# Altium footprint library PcbLib1.PcbLib: 2 footprints
Each footprint in its own frame and in the unit in brackets; x right, y up, seen from the top. Pads: shape width x height; smd on the part's side, far side on the other; paste and mask are expansions set on the pad; w line width, h text height; cw(c..) or ccw(c..) is an arc to the next point about the centre after c.
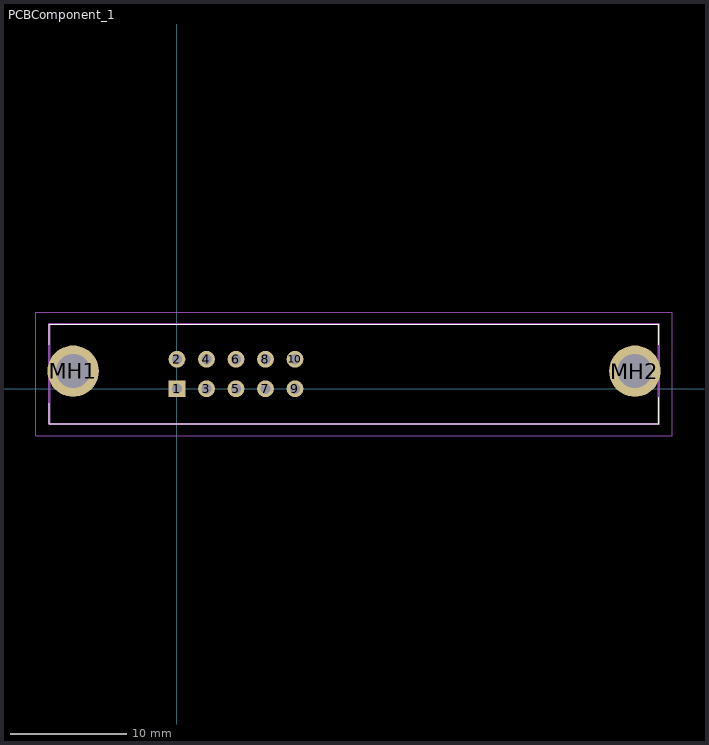
[diagram p0: the footprints below, top view; thin cyan lines are the x and y axes]

## PCBComponent_1 [mm]
pads (12):
  rect 1.446x1.446 hole 0.89: 1(0,0)
  round 1.446 hole 0.89: 2(0,2.54) 3(2.54,0) 4(2.54,2.54) 5(5.08,0) 6(5.08,2.54) 7(7.62,0) 8(7.62,2.54) 9(10.16,0) 10(10.16,2.54)
  round 4.425 hole 2.95: MH1(-8.94,1.52) MH2(39.42,1.52)
Top Overlay:
  lines w0.1: -10.985,-1.23 -10.985,-3.03 41.465,-3.03 41.465,-0.73 ; -10.985,3.77 -10.985,5.57 41.465,5.57 41.465,3.77
Mechanical 13:
  lines w0.2: -10.985,-3.03 41.465,-3.03 41.465,5.57 -10.985,5.57 -10.985,-3.03
Mechanical 15:
  lines w0.1: -12.152,-4.03 42.633,-4.03 42.633,6.57 -12.152,6.57 -12.152,-4.03
3D body: height 0.25, standoff 0, extent -10.985,-3.03 41.465,5.57

## PCBComponent_1 - duplicate [mil]